# EAGLE library part MICRO6LOCK (library DashAndCAN library)
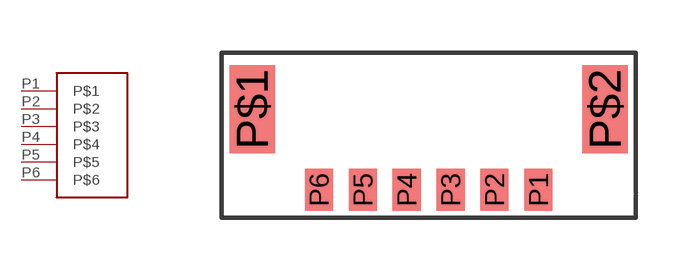
[diagram p4: symbol with the pads of MICRO6LOCK; footprint MICRO6LOCK]

Designator prefix -

## MICRO6LOCK  [MICRO6LOCK]
P1  P$1
P2  P$2
P3  P$3
P4  P$4
P5  P$5
P6  P$6

## Footprint MICRO6LOCK (pad centres in mm)
smd 0.8 x 1.2: P1 3.125,0; P2 1.875,0; P3 0.625,0; P4 -0.625,0; P5 -1.875,0; P6 -3.125,0
smd 1.3 x 2.5: P$1 -5.025,2.295; P$2 5.025,2.295